# Altium footprint library Power.PcbLib: 11 footprints
Each footprint in its own frame and in the unit in brackets; x right, y up, seen from the top. Pads: shape width x height; smd on the part's side, far side on the other; paste and mask are expansions set on the pad; w line width, h text height; cw(c..) or ccw(c..) is an arc to the next point about the centre after c.
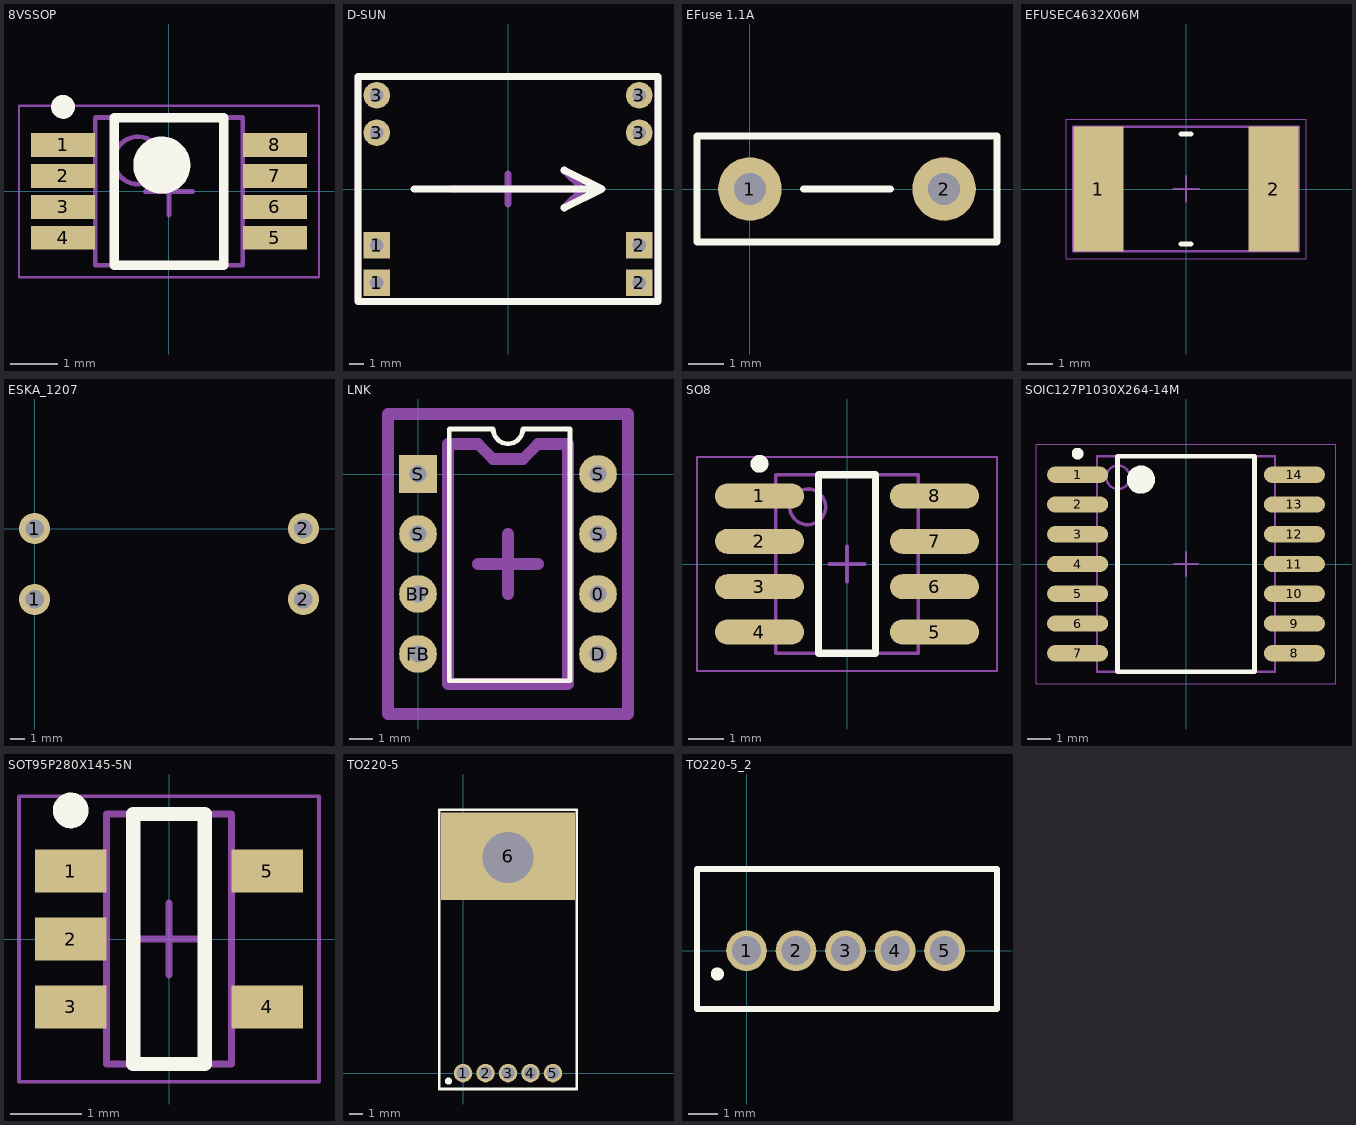
[diagram p0: the footprints below, top view; thin cyan lines are the x and y axes]

## 8VSSOP [mm] "VSSOP, 8-Leads, Body 3,00x3,00mm, Pitch 0,65mm, IPC Medium Density"
height 1.1
pads (8):
  rect 1.35x0.5 smd: 1(-2.225,0.975) 2(-2.225,0.325) 3(-2.225,-0.325) 4(-2.225,-0.975) 5(2.225,-0.975) 6(2.225,-0.325) 7(2.225,0.325) 8(2.225,0.975)
Top Overlay:
  circle w0.6: c-0.15,0.55 r0.3
  circle w0.25: c-2.225,1.775 r0.125
  lines w0.2: -1.15,-1.55 1.15,-1.55 1.15,1.55 -1.15,1.55 -1.15,-1.55
Mechanical 13:
  circle w0.1: c-0.65,0.65 r0.5
  lines w0.1: -1.55,-1.55 1.55,-1.55 1.55,1.55 -1.55,1.55 -1.55,-1.55
Mechanical 15:
  lines w0.05: -3.15,-1.8 3.15,-1.8 3.15,1.8 -3.15,1.8 -3.15,-1.8
  lines w0.1: -0.5,0 0.5,0 ; 0,-0.5 0,0.5
3D body "8VSSOP.step": height 1.1, standoff 0, extent -2.45,-1.55 2.45,1.55

## D-SUN [mm]
pads (8):
  rect 1.8x1.8 hole 0.9: 1(-8.89,-6.35) 1(-8.89,-3.81) 2(8.89,-6.35) 2(8.89,-3.81)
  round 1.8 hole 0.9: 3(-8.89,3.81) 3(-8.89,6.35) 3(8.89,3.81) 3(8.89,6.35)
Top Overlay:
  lines w0.5: -6.35,0 6.35,0 ; 3.81,-1.27 6.35,0 ; 3.81,1.27 6.35,0 ; -10.16,-7.62 10.16,-7.62 10.16,7.62 -10.16,7.62 -10.16,-7.62
Mechanical 13:
  lines w0.5: -3.81,0 5.08,0 ; 3.81,-1.27 5.08,0 ; 3.81,1.27 5.08,0 ; -10.16,-7.62 -10.16,7.62 10.16,7.62 10.16,-7.62 -10.16,-7.62
Mechanical 15:
  lines w0.5: -1,0 0,0 ; 0,-1 0,0 ; 0,1 0,0 ; 1,0 0,0 ; -10.16,-7.62 10.16,-7.62 10.16,7.62 -10.16,7.62 -10.16,-7.62
3D body: height 9, standoff 0, extent 7.62,2.54 10.16,7.62
3D body: height 9, standoff 0, extent 7.62,-7.62 10.16,-2.54
3D body: height 9, standoff 0, extent -10.16,-7.62 -7.62,-2.54
3D body: height 9, standoff 0, extent -10.16,2.54 -7.62,7.62
3D body: height 10, standoff 9, extent -10.16,-7.62 10.16,7.62

## EFuse 1.1A [mm]
pads (2):
  round 1.8 hole 0.9: 1(0,0) 2(5.5,0)
Top Overlay:
  lines w0.2: 1.525,0 3.9,0 ; 1.6,0 3.975,0 ; -1.5,-1.5 7,-1.5 7,1.5 -1.5,1.5 -1.5,-1.5
3D body: height 12.99, standoff 1.01, extent -3.226,-0.5 8.726,0.5
3D body: height 6, standoff 0, extent -0.397,-0.399 0.4,0.399
3D body: height 6, standoff 0, extent 5.103,-0.399 5.9,0.399

## EFUSEC4632X06M [mm] "Chip Resistor, 2-Leads, Body 5,80x3,30mm, IPC Low Density"
height 0.6
pads (2):
  rect 2x5 smd: 1(-3.5,0) 2(3.5,0)
Top Overlay:
  lines w0.2: -0.2,-2.2 0.2,-2.2 ; -0.2,2.2 0.2,2.2
Mechanical 13:
  lines w0.1: -4.5,-2.5 4.5,-2.5 4.5,2.5 -4.5,2.5 -4.5,-2.5
Mechanical 15:
  lines w0.05: -4.8,-2.8 4.8,-2.8 4.8,2.8 -4.8,2.8 -4.8,-2.8
  lines w0.1: -0.5,0 0.5,0 ; 0,-0.5 0,0.5
3D body: height 0.6, standoff 0, extent 2.5,-2.5 4.5,2.5
3D body: height 0.6, standoff 0, extent -4.5,-2.5 -2.5,2.5
3D body: height 0.6, standoff 0, extent -2.5,-2.5 2.5,2.5

## ESKA_1207 [mm] "Держатель для предохранителя 5mm x 20mm"
height 6
pads (4):
  round 2.2 hole 1.3: 1(0,-5) 1(0,0) 2(19,-5) 2(19,0)
3D body: height 10.48, standoff 5.5, extent -0.5,-4.995 19.5,-0.005
3D body: height 9.5, standoff 0, extent 18,-0.5 20,0
3D body: height 9.5, standoff 0, extent 18,-5 20,-4.5
3D body: height 9, standoff 7, extent 19.5,-4.75 20,-0.25
3D body: height 9, standoff 7, extent -1,-4.75 -0.5,-0.25
3D body: height 9.5, standoff 0, extent -1,-0.5 1,0
3D body: height 9.5, standoff 0, extent -1,-5 1,-4.5

## LNK [mm]
height 5
pads (8):
  round 1.6 hole 0.7: 0(7.62,-5.08) BP(0,-5.08) D(7.62,-7.62) FB(0,-7.62) S(0,-2.54) S(7.62,-2.54) S(7.62,0)
  rect 1.6x1.6 hole 0.7: S(0,0)
Top Overlay:
  lines w0.2: 1.323,-8.75 1.323,1.905 3.185,1.905 ccw(c3.81,1.905) 4.435,1.905 6.35,1.905 6.431,1.905 6.431,-8.75 1.323,-8.75
Mechanical 13:
  lines w0.5: 1.27,-8.89 1.27,1.27 2.54,1.27 3.175,0.635 4.445,0.635 5.08,1.27 6.35,1.27 6.35,-8.89 1.27,-8.89
Mechanical 15:
  lines w0.5: 2.54,-3.81 3.81,-3.81 ; 3.81,-5.08 3.81,-3.81 ; 3.81,-2.54 3.81,-3.81 ; 5.08,-3.81 3.81,-3.81 ; -1.27,-10.16 -1.27,2.54 8.89,2.54 8.89,-10.16 -1.27,-10.16
3D body "DIP8-DEFAULT.STEP": height 4.19, standoff -2.67, extent -0.127,-9.525 7.747,1.905

## SO8 [mm] "SOIC, 8-Leads, Body 4,90x3,90mm, Pitch 1,27mm, IPC Low Density"
height 1.75
pads (8):
  oval 2.5x0.7 smd: 1(-2.45,1.905) 2(-2.45,0.635) 3(-2.45,-0.635) 4(-2.45,-1.905) 5(2.45,-1.905) 6(2.45,-0.635) 7(2.45,0.635) 8(2.45,1.905)
Top Overlay:
  circle w0.25: c-2.45,2.805 r0.125
  lines w0.2: -0.8,-2.5 -0.8,2.5 0.8,2.5 0.8,-2.5 -0.8,-2.5
Mechanical 13:
  circle w0.1: c-1.1,1.6 r0.5
  lines w0.1: -2,-2.5 -2,2.5 2,2.5 2,-2.5 -2,-2.5
Mechanical 15:
  lines w0.05: -4.2,-3 -4.2,3 4.2,3 4.2,-3 -4.2,-3
  lines w0.1: -0.5,0 0.5,0 ; 0,-0.5 0,0.5
3D body: height 1.75, standoff 0.1, extent -2,-2.5 2,2.5

## SOIC127P1030X264-14M [mm] "SOIC, 14-Leads, Body 8,99x7,49mm, Pitch 1,27mm, IPC Low Density"
height 2.65
pads (14):
  oval 2.6x0.7 smd: 1(-4.625,3.81) 2(-4.625,2.54) 3(-4.625,1.27) 4(-4.625,0) 5(-4.625,-1.27) 6(-4.625,-2.54) 7(-4.625,-3.81) 8(4.625,-3.81) 9(4.625,-2.54) 10(4.625,-1.27) 11(4.625,0) 12(4.625,1.27) 13(4.625,2.54) 14(4.625,3.81)
Top Overlay:
  circle w0.25: c-4.625,4.71 r0.125
  circle w0.6: c-1.925,3.6 r0.3
  lines w0.2: -2.925,-4.6 -2.925,4.6 2.925,4.6 2.925,-4.6 -2.925,-4.6
Mechanical 13:
  circle w0.1: c-2.9,3.7 r0.5
  lines w0.1: -3.8,-4.6 -3.8,4.6 3.8,4.6 3.8,-4.6 -3.8,-4.6
Mechanical 15:
  lines w0.05: -6.4,-5.1 -6.4,5.1 6.4,5.1 6.4,-5.1 -6.4,-5.1
  lines w0.1: -0.5,0 0.5,0 ; 0,-0.5 0,0.5
3D body: height 2.65, standoff 0.1, extent -3.8,-4.6 3.8,4.6

## SOT95P280X145-5N [mm] "SOT23, 5-Leads, Body 3,13x2,80mm, Pitch 0,95mm, IPC Medium Density"
height 1.45
pads (5):
  rect 1x0.6 smd: 1(-1.375,0.95) 2(-1.375,0) 3(-1.375,-0.95) 4(1.375,-0.95) 5(1.375,0.95)
Top Overlay:
  circle w0.25: c-1.375,1.8 r0.125
  lines w0.2: -0.5,-1.75 -0.5,1.75 0.5,1.75 0.5,-1.75 -0.5,-1.75
Mechanical 13:
  lines w0.1: -0.875,-1.75 0.875,-1.75 0.875,1.75 -0.875,1.75 -0.875,-1.75
Mechanical 15:
  lines w0.05: -2.1,-2 2.1,-2 2.1,2 -2.1,2 -2.1,-2
  lines w0.1: -0.5,0 0.5,0 ; 0,-0.5 0,0.5
3D body "SOT95P280X145-5N.step": height 1.45, standoff 0, extent -1.5,-1.75 1.5,1.75

## TO220-5 [mm] "Лежачий"
pads (6):
  round 1.4 hole 1: 1(0,0) 2(1.7,0) 3(3.4,0) 4(5.1,0) 5(6.8,0)
  rect 10.16x6.6 smd: 6(3.4,16.4)
via 3.4,16.3 diameter 4 hole 3.89
Top Overlay:
  circle w0.254: c-1.1,-0.6 r0.141
  lines w0.2: -1.8,-1.2 -1.8,19.9 8.6,19.9 8.6,-1.2 -1.8,-1.2
3D body "TO-220 5pins.stp": height 4.67, standoff -3.03, extent -1.68,-0.2 8.48,19.165

## TO220-5_2 [mm] "Стоячий"
pads (5):
  round 1.4 hole 1: 1(0,0) 2(1.7,0) 3(3.4,0) 4(5.1,0) 5(6.8,0)
Top Overlay:
  circle w0.254: c-1,-0.8 r0.1
  lines w0.2: -1.7,-2 8.6,-2 8.6,-1.4 8.6,2.8 -1.7,2.8 -1.7,-2
3D body "TO-220 5pins short V1.stp": height 18.67, standoff -3.32, extent -1.68,-1.85 8.48,2.725